# Altium integrated library memory-nec.IntLib: 29 symbols
Pins are listed as number, name and electrical type; pins without a type are passive.

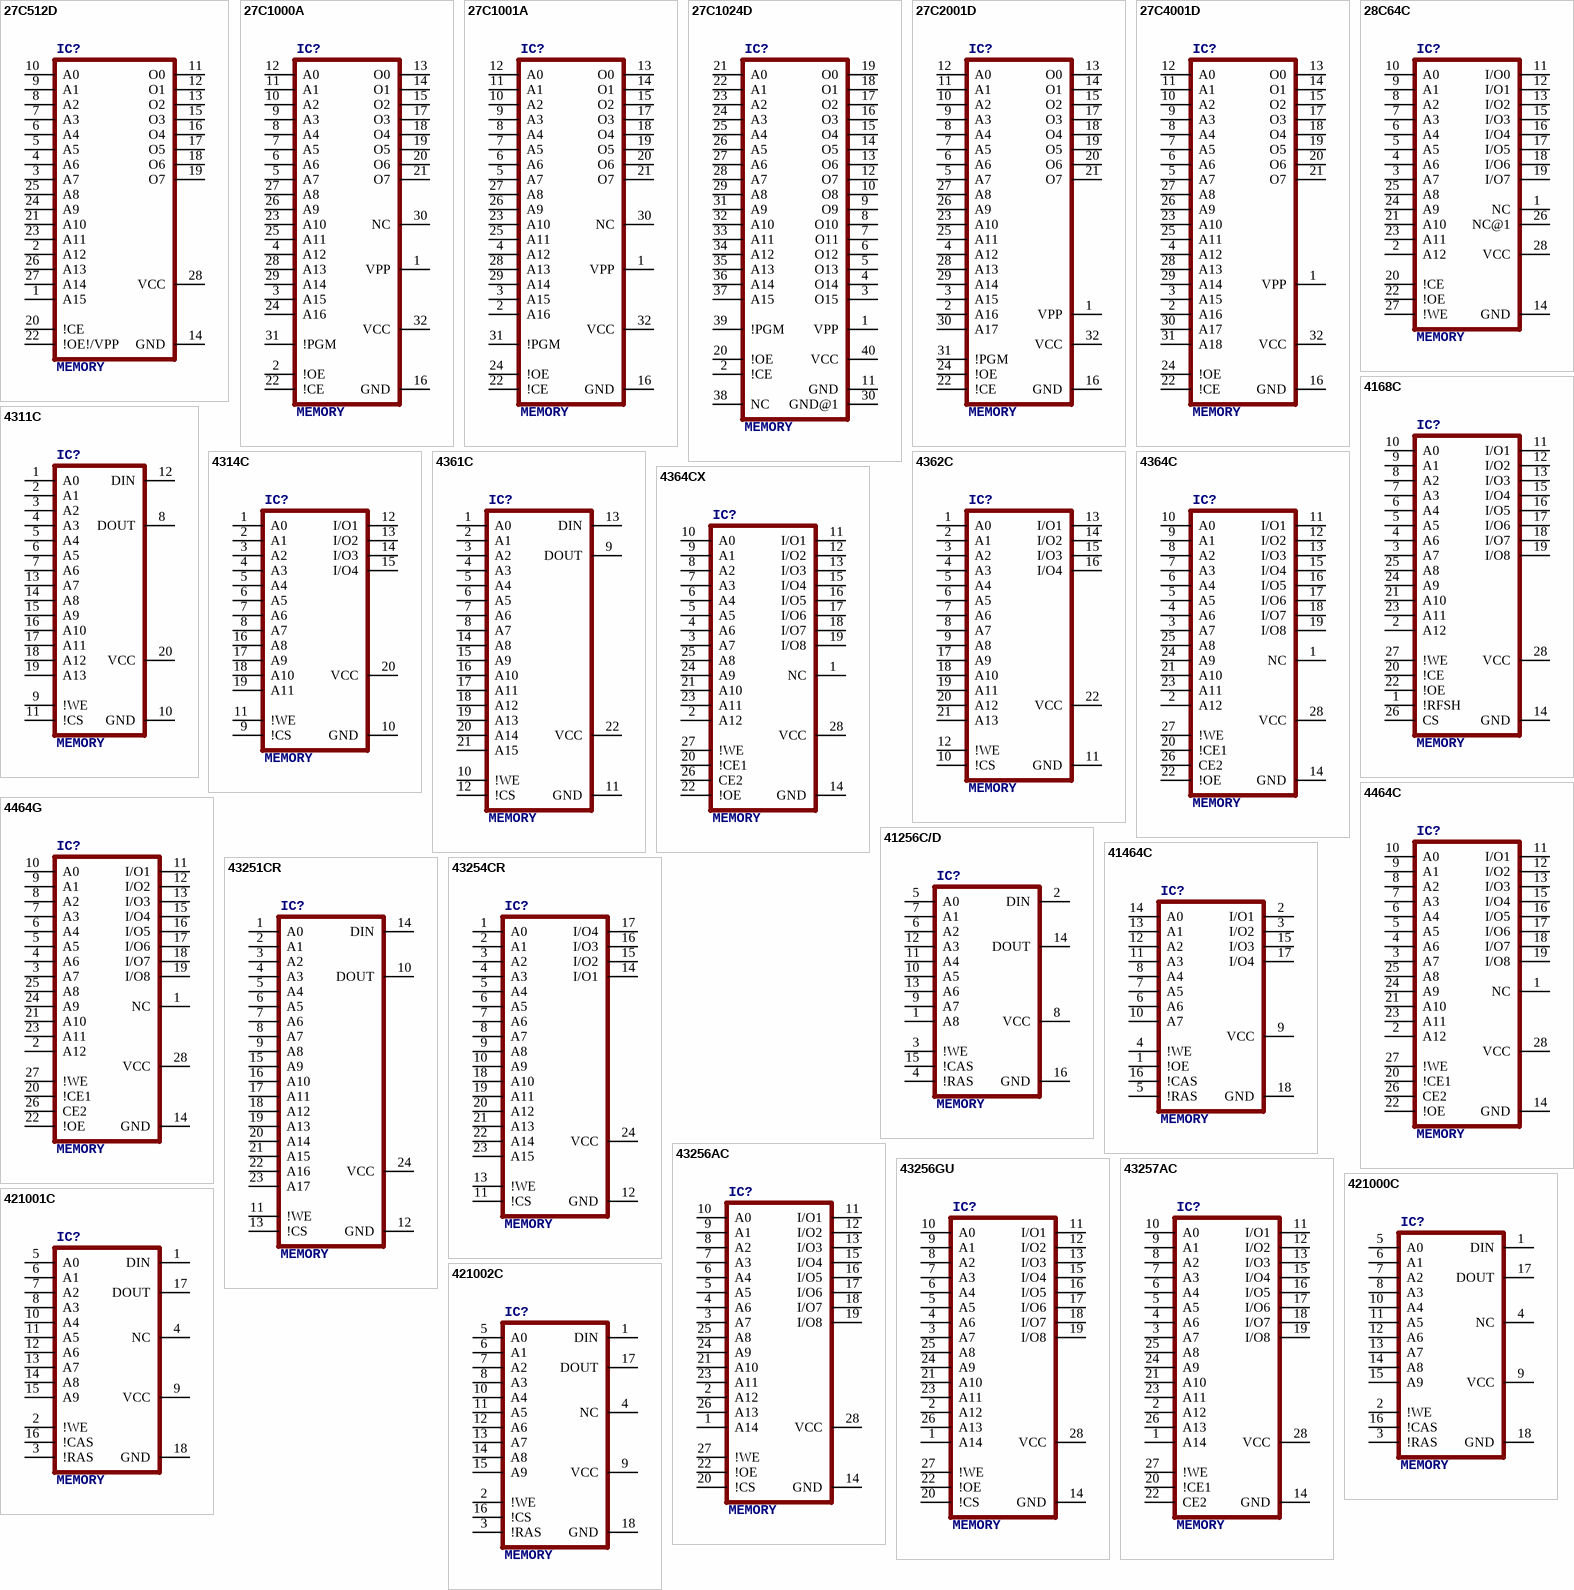
[diagram p0: symbols 27C512D to 421002C]

## 27C512D
designator IC?, comment MEMORY
MPN: M27C512-10F1; OC_FARNELL: 1661676; OC_NEWARK: 56P9224
footprint DIL28-6
pins: 1 A15, 2 A12, 3 A7, 4 A6, 5 A5, 6 A4, 7 A3, 8 A2, 9 A1, 10 A0, 11 O0 (hiz), 12 O1 (hiz), 13 O2 (hiz), 14 GND (power), 15 O3 (hiz), 16 O4 (hiz), 17 O5 (hiz), 18 O6 (hiz), 19 O7 (hiz), 20 !CE, 21 A10, 22 !OE!/VPP, 23 A11, 24 A9, 25 A8, 26 A13, 27 A14, 28 VCC (power)

## 27C1000A
designator IC?, comment MEMORY
OC_FARNELL: unknown; OC_NEWARK: unknown
footprint DIL32
pins: 1 VPP, 2 !OE, 3 A15, 4 A12, 5 A7, 6 A6, 7 A5, 8 A4, 9 A3, 10 A2, 11 A1, 12 A0, 13 O0 (hiz), 14 O1 (hiz), 15 O2 (hiz), 16 GND (power), 17 O3 (hiz), 18 O4 (hiz), 19 O5 (hiz), 20 O6 (hiz), 21 O7 (hiz), 22 !CE, 23 A10, 24 A16, 25 A11, 26 A9, 27 A8, 28 A13, 29 A14, 30 NC, 31 !PGM, 32 VCC (power)

## 27C1001A
designator IC?, comment MEMORY
MPN: M27C1001-15F1; OC_FARNELL: 1661756; OC_NEWARK: 78M7615
footprint DIL32
pins: 1 VPP, 2 A16, 3 A15, 4 A12, 5 A7, 6 A6, 7 A5, 8 A4, 9 A3, 10 A2, 11 A1, 12 A0, 13 O0 (hiz), 14 O1 (hiz), 15 O2 (hiz), 16 GND (power), 17 O3 (hiz), 18 O4 (hiz), 19 O5 (hiz), 20 O6 (hiz), 21 O7 (hiz), 22 !CE, 23 A10, 24 !OE, 25 A11, 26 A9, 27 A8, 28 A13, 29 A14, 30 NC, 31 !PGM, 32 VCC (power)

## 27C1024D
designator IC?, comment MEMORY
MPN: M27C1024-70C1; OC_FARNELL: unknown; OC_NEWARK: 37M4699
footprint DIL40
pins: 1 VPP, 2 !CE, 3 O15 (hiz), 4 O14 (hiz), 5 O13 (hiz), 6 O12 (hiz), 7 O11 (hiz), 8 O10 (hiz), 9 O9 (hiz), 10 O8 (hiz), 11 GND (power), 12 O7 (hiz), 13 O6 (hiz), 14 O5 (hiz), 15 O4 (hiz), 16 O3 (hiz), 17 O2 (hiz), 18 O1 (hiz), 19 O0 (hiz), 20 !OE, 21 A0, 22 A1, 23 A2, 24 A3, 25 A4, 26 A5, 27 A6, 28 A7, 29 A8, 30 GND@1 (power), 31 A9, 32 A10, 33 A11, 34 A12, 35 A13, 36 A14, 37 A15, 38 NC, 39 !PGM, 40 VCC (power)

## 27C2001D
designator IC?, comment MEMORY
MPN: M27C2001-10B1; OC_FARNELL: 3338101; OC_NEWARK: 37M4702
footprint DIL32
pins: 1 VPP, 2 A16, 3 A15, 4 A12, 5 A7, 6 A6, 7 A5, 8 A4, 9 A3, 10 A2, 11 A1, 12 A0, 13 O0 (hiz), 14 O1 (hiz), 15 O2 (hiz), 16 GND (power), 17 O3 (hiz), 18 O4 (hiz), 19 O5 (hiz), 20 O6 (hiz), 21 O7 (hiz), 22 !CE, 23 A10, 24 !OE, 25 A11, 26 A9, 27 A8, 28 A13, 29 A14, 30 A17, 31 !PGM, 32 VCC (power)

## 27C4001D
designator IC?, comment MEMORY
MPN: M27C4001-12B1; OC_FARNELL: 3338137; OC_NEWARK: 37M4736
footprint DIL32
pins: 1 VPP, 2 A16, 3 A15, 4 A12, 5 A7, 6 A6, 7 A5, 8 A4, 9 A3, 10 A2, 11 A1, 12 A0, 13 O0 (hiz), 14 O1 (hiz), 15 O2 (hiz), 16 GND (power), 17 O3 (hiz), 18 O4 (hiz), 19 O5 (hiz), 20 O6 (hiz), 21 O7 (hiz), 22 !CE, 23 A10, 24 !OE, 25 A11, 26 A9, 27 A8, 28 A13, 29 A14, 30 A17, 31 A18, 32 VCC (power)

## 28C64C
designator IC?, comment MEMORY
MPN: AT28C64B-15PU; OC_FARNELL: 1095784; OC_NEWARK: 96K6557
footprint DIL28-6
pins: 1 NC, 2 A12, 3 A7, 4 A6, 5 A5, 6 A4, 7 A3, 8 A2, 9 A1, 10 A0, 11 I/O0, 12 I/O1, 13 I/O2, 14 GND (power), 15 I/O3, 16 I/O4, 17 I/O5, 18 I/O6, 19 I/O7, 20 !CE, 21 A10, 22 !OE, 23 A11, 24 A9, 25 A8, 26 NC@1, 27 !WE, 28 VCC (power)

## 4168C
designator IC?, comment MEMORY
OC_FARNELL: unknown; OC_NEWARK: unknown
footprint DIL28-6
pins: 1 !RFSH, 2 A12, 3 A7, 4 A6, 5 A5, 6 A4, 7 A3, 8 A2, 9 A1, 10 A0, 11 I/O1, 12 I/O2, 13 I/O3, 14 GND (power), 15 I/O4, 16 I/O5, 17 I/O6, 18 I/O7, 19 I/O8, 20 !CE, 21 A10, 22 !OE, 23 A11, 24 A9, 25 A8, 26 CS, 27 !WE, 28 VCC (power)

## 4311C
designator IC?, comment MEMORY
OC_FARNELL: unknown; OC_NEWARK: unknown
footprint DIL20
pins: 1 A0, 2 A1, 3 A2, 4 A3, 5 A4, 6 A5, 7 A6, 8 DOUT (hiz), 9 !WE, 10 GND (power), 11 !CS, 12 DIN, 13 A7, 14 A8, 15 A9, 16 A10, 17 A11, 18 A12, 19 A13, 20 VCC (power)

## 4314C
designator IC?, comment MEMORY
OC_FARNELL: unknown; OC_NEWARK: unknown
footprint DIL20
pins: 1 A0, 2 A1, 3 A2, 4 A3, 5 A4, 6 A5, 7 A6, 8 A7, 9 !CS, 10 GND (power), 11 !WE, 12 I/O1, 13 I/O2, 14 I/O3, 15 I/O4, 16 A8, 17 A9, 18 A10, 19 A11, 20 VCC (power)

## 4361C
designator IC?, comment MEMORY
OC_FARNELL: unknown; OC_NEWARK: unknown
footprint DIL22-3
pins: 1 A0, 2 A1, 3 A2, 4 A3, 5 A4, 6 A5, 7 A6, 8 A7, 9 DOUT (hiz), 10 !WE, 11 GND (power), 12 !CS, 13 DIN, 14 A8, 15 A9, 16 A10, 17 A11, 18 A12, 19 A13, 20 A14, 21 A15, 22 VCC (power)

## 4362C
designator IC?, comment MEMORY
OC_FARNELL: unknown; OC_NEWARK: unknown
footprint DIL22-3
pins: 1 A0, 2 A1, 3 A2, 4 A3, 5 A4, 6 A5, 7 A6, 8 A7, 9 A8, 10 !CS, 11 GND (power), 12 !WE, 13 I/O1, 14 I/O2, 15 I/O3, 16 I/O4, 17 A9, 18 A10, 19 A11, 20 A12, 21 A13, 22 VCC (power)

## 4364C
designator IC?, comment MEMORY
OC_FARNELL: unknown; OC_NEWARK: unknown
footprint DIL28-6
pins: 1 NC, 2 A12, 3 A7, 4 A6, 5 A5, 6 A4, 7 A3, 8 A2, 9 A1, 10 A0, 11 I/O1, 12 I/O2, 13 I/O3, 14 GND (power), 15 I/O4, 16 I/O5, 17 I/O6, 18 I/O7, 19 I/O8, 20 !CE1, 21 A10, 22 !OE, 23 A11, 24 A9, 25 A8, 26 CE2, 27 !WE, 28 VCC (power)

## 4364CX
designator IC?, comment MEMORY
OC_FARNELL: unknown; OC_NEWARK: unknown
footprint DIL28-3
pins: 1 NC, 2 A12, 3 A7, 4 A6, 5 A5, 6 A4, 7 A3, 8 A2, 9 A1, 10 A0, 11 I/O1, 12 I/O2, 13 I/O3, 14 GND (power), 15 I/O4, 16 I/O5, 17 I/O6, 18 I/O7, 19 I/O8, 20 !CE1, 21 A10, 22 !OE, 23 A11, 24 A9, 25 A8, 26 CE2, 27 !WE, 28 VCC (power)

## 4464C
designator IC?, comment MEMORY
OC_FARNELL: unknown; OC_NEWARK: unknown
footprint DIL28-6
pins: 1 NC, 2 A12, 3 A7, 4 A6, 5 A5, 6 A4, 7 A3, 8 A2, 9 A1, 10 A0, 11 I/O1, 12 I/O2, 13 I/O3, 14 GND (power), 15 I/O4, 16 I/O5, 17 I/O6, 18 I/O7, 19 I/O8, 20 !CE1, 21 A10, 22 !OE, 23 A11, 24 A9, 25 A8, 26 CE2, 27 !WE, 28 VCC (power)

## 4464G
designator IC?, comment MEMORY
OC_FARNELL: unknown; OC_NEWARK: unknown
footprint SO28L
pins: 1 NC, 2 A12, 3 A7, 4 A6, 5 A5, 6 A4, 7 A3, 8 A2, 9 A1, 10 A0, 11 I/O1, 12 I/O2, 13 I/O3, 14 GND (power), 15 I/O4, 16 I/O5, 17 I/O6, 18 I/O7, 19 I/O8, 20 !CE1, 21 A10, 22 !OE, 23 A11, 24 A9, 25 A8, 26 CE2, 27 !WE, 28 VCC (power)

## 41256C/D
designator IC?, comment MEMORY
OC_FARNELL: unknown; OC_NEWARK: unknown
footprint DIL16
pins: 1 A8, 2 DIN, 3 !WE, 4 !RAS, 5 A0, 6 A2, 7 A1, 8 VCC (power), 9 A7, 10 A5, 11 A4, 12 A3, 13 A6, 14 DOUT (hiz), 15 !CAS, 16 GND (power)

## 41464C
designator IC?, comment MEMORY
OC_FARNELL: unknown; OC_NEWARK: unknown
footprint DIL18
pins: 1 !OE, 2 I/O1, 3 I/O2, 4 !WE, 5 !RAS, 6 A6, 7 A5, 8 A4, 9 VCC (power), 10 A7, 11 A3, 12 A2, 13 A1, 14 A0, 15 I/O3, 16 !CAS, 17 I/O4, 18 GND (power)

## 43251CR
designator IC?, comment MEMORY
OC_FARNELL: unknown; OC_NEWARK: unknown
footprint DIL24-3
pins: 1 A0, 2 A1, 3 A2, 4 A3, 5 A4, 6 A5, 7 A6, 8 A7, 9 A8, 10 DOUT (hiz), 11 !WE, 12 GND (power), 13 !CS, 14 DIN, 15 A9, 16 A10, 17 A11, 18 A12, 19 A13, 20 A14, 21 A15, 22 A16, 23 A17, 24 VCC (power)

## 43254CR
designator IC?, comment MEMORY
OC_FARNELL: unknown; OC_NEWARK: unknown
footprint DIL24-3
pins: 1 A0, 2 A1, 3 A2, 4 A3, 5 A4, 6 A5, 7 A6, 8 A7, 9 A8, 10 A9, 11 !CS, 12 GND (power), 13 !WE, 14 I/O1, 15 I/O2, 16 I/O3, 17 I/O4, 18 A10, 19 A11, 20 A12, 21 A13, 22 A14, 23 A15, 24 VCC (power)

## 43256AC
designator IC?, comment MEMORY
OC_FARNELL: unknown; OC_NEWARK: unknown
footprint DIL28-6
pins: 1 A14, 2 A12, 3 A7, 4 A6, 5 A5, 6 A4, 7 A3, 8 A2, 9 A1, 10 A0, 11 I/O1, 12 I/O2, 13 I/O3, 14 GND (power), 15 I/O4, 16 I/O5, 17 I/O6, 18 I/O7, 19 I/O8, 20 !CS, 21 A10, 22 !OE, 23 A11, 24 A9, 25 A8, 26 A13, 27 !WE, 28 VCC (power)

## 43256GU
designator IC?, comment MEMORY
MPN: UPD43256BGU-70LL-A; OC_FARNELL: 1209615; OC_NEWARK: 98K2138
footprint SO28L
pins: 1 A14, 2 A12, 3 A7, 4 A6, 5 A5, 6 A4, 7 A3, 8 A2, 9 A1, 10 A0, 11 I/O1, 12 I/O2, 13 I/O3, 14 GND (power), 15 I/O4, 16 I/O5, 17 I/O6, 18 I/O7, 19 I/O8, 20 !CS, 21 A10, 22 !OE, 23 A11, 24 A9, 25 A8, 26 A13, 27 !WE, 28 VCC (power)

## 43257AC
designator IC?, comment MEMORY
OC_FARNELL: unknown; OC_NEWARK: unknown
footprint DIL28-6
pins: 1 A14, 2 A12, 3 A7, 4 A6, 5 A5, 6 A4, 7 A3, 8 A2, 9 A1, 10 A0, 11 I/O1, 12 I/O2, 13 I/O3, 14 GND (power), 15 I/O4, 16 I/O5, 17 I/O6, 18 I/O7, 19 I/O8, 20 !CE1, 21 A10, 22 CE2, 23 A11, 24 A9, 25 A8, 26 A13, 27 !WE, 28 VCC (power)

## 421000C
designator IC?, comment MEMORY
OC_FARNELL: unknown; OC_NEWARK: unknown
footprint DIL18
pins: 1 DIN, 2 !WE, 3 !RAS, 4 NC, 5 A0, 6 A1, 7 A2, 8 A3, 9 VCC (power), 10 A4, 11 A5, 12 A6, 13 A7, 14 A8, 15 A9, 16 !CAS, 17 DOUT (hiz), 18 GND (power)

## 421001C
designator IC?, comment MEMORY
OC_FARNELL: unknown; OC_NEWARK: unknown
footprint DIL18
pins: 1 DIN, 2 !WE, 3 !RAS, 4 NC, 5 A0, 6 A1, 7 A2, 8 A3, 9 VCC (power), 10 A4, 11 A5, 12 A6, 13 A7, 14 A8, 15 A9, 16 !CAS, 17 DOUT (hiz), 18 GND (power)

## 421002C
designator IC?, comment MEMORY
OC_FARNELL: unknown; OC_NEWARK: unknown
footprint DIL18
pins: 1 DIN, 2 !WE, 3 !RAS, 4 NC, 5 A0, 6 A1, 7 A2, 8 A3, 9 VCC (power), 10 A4, 11 A5, 12 A6, 13 A7, 14 A8, 15 A9, 16 !CS, 17 DOUT (hiz), 18 GND (power)

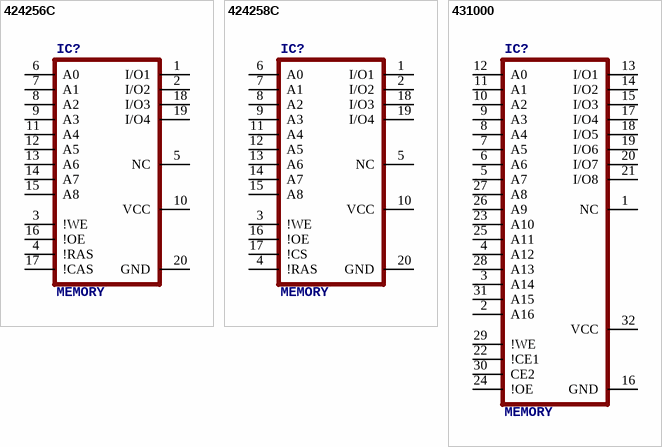
[diagram p1: symbols 424256C to 431000]

## 424256C
designator IC?, comment MEMORY
OC_FARNELL: unknown; OC_NEWARK: unknown
footprint DIL20
pins: 1 I/O1, 2 I/O2, 3 !WE, 4 !RAS, 5 NC, 6 A0, 7 A1, 8 A2, 9 A3, 10 VCC (power), 11 A4, 12 A5, 13 A6, 14 A7, 15 A8, 16 !OE, 17 !CAS, 18 I/O3, 19 I/O4, 20 GND (power)

## 424258C
designator IC?, comment MEMORY
OC_FARNELL: unknown; OC_NEWARK: unknown
footprint DIL20
pins: 1 I/O1, 2 I/O2, 3 !WE, 4 !RAS, 5 NC, 6 A0, 7 A1, 8 A2, 9 A3, 10 VCC (power), 11 A4, 12 A5, 13 A6, 14 A7, 15 A8, 16 !OE, 17 !CS, 18 I/O3, 19 I/O4, 20 GND (power)

## 431000
designator IC?, comment MEMORY
OC_FARNELL: unknown; OC_NEWARK: unknown
footprint DIL32
pins: 1 NC, 2 A16, 3 A14, 4 A12, 5 A7, 6 A6, 7 A5, 8 A4, 9 A3, 10 A2, 11 A1, 12 A0, 13 I/O1, 14 I/O2, 15 I/O3, 16 GND (power), 17 I/O4, 18 I/O5, 19 I/O6, 20 I/O7, 21 I/O8, 22 !CE1, 23 A10, 24 !OE, 25 A11, 26 A9, 27 A8, 28 A13, 29 !WE, 30 CE2, 31 A15, 32 VCC (power)